# Altium footprint library con-weidmueller-sl35.PCBLIB: 184 footprints (part 10 of 12)
Each footprint in its own frame and in the unit in brackets; x right, y up, seen from the top. Pads: shape width x height; smd on the part's side, far side on the other; paste and mask are expansions set on the pad; w line width, h text height; cw(c..) or ccw(c..) is an arc to the next point about the centre after c.
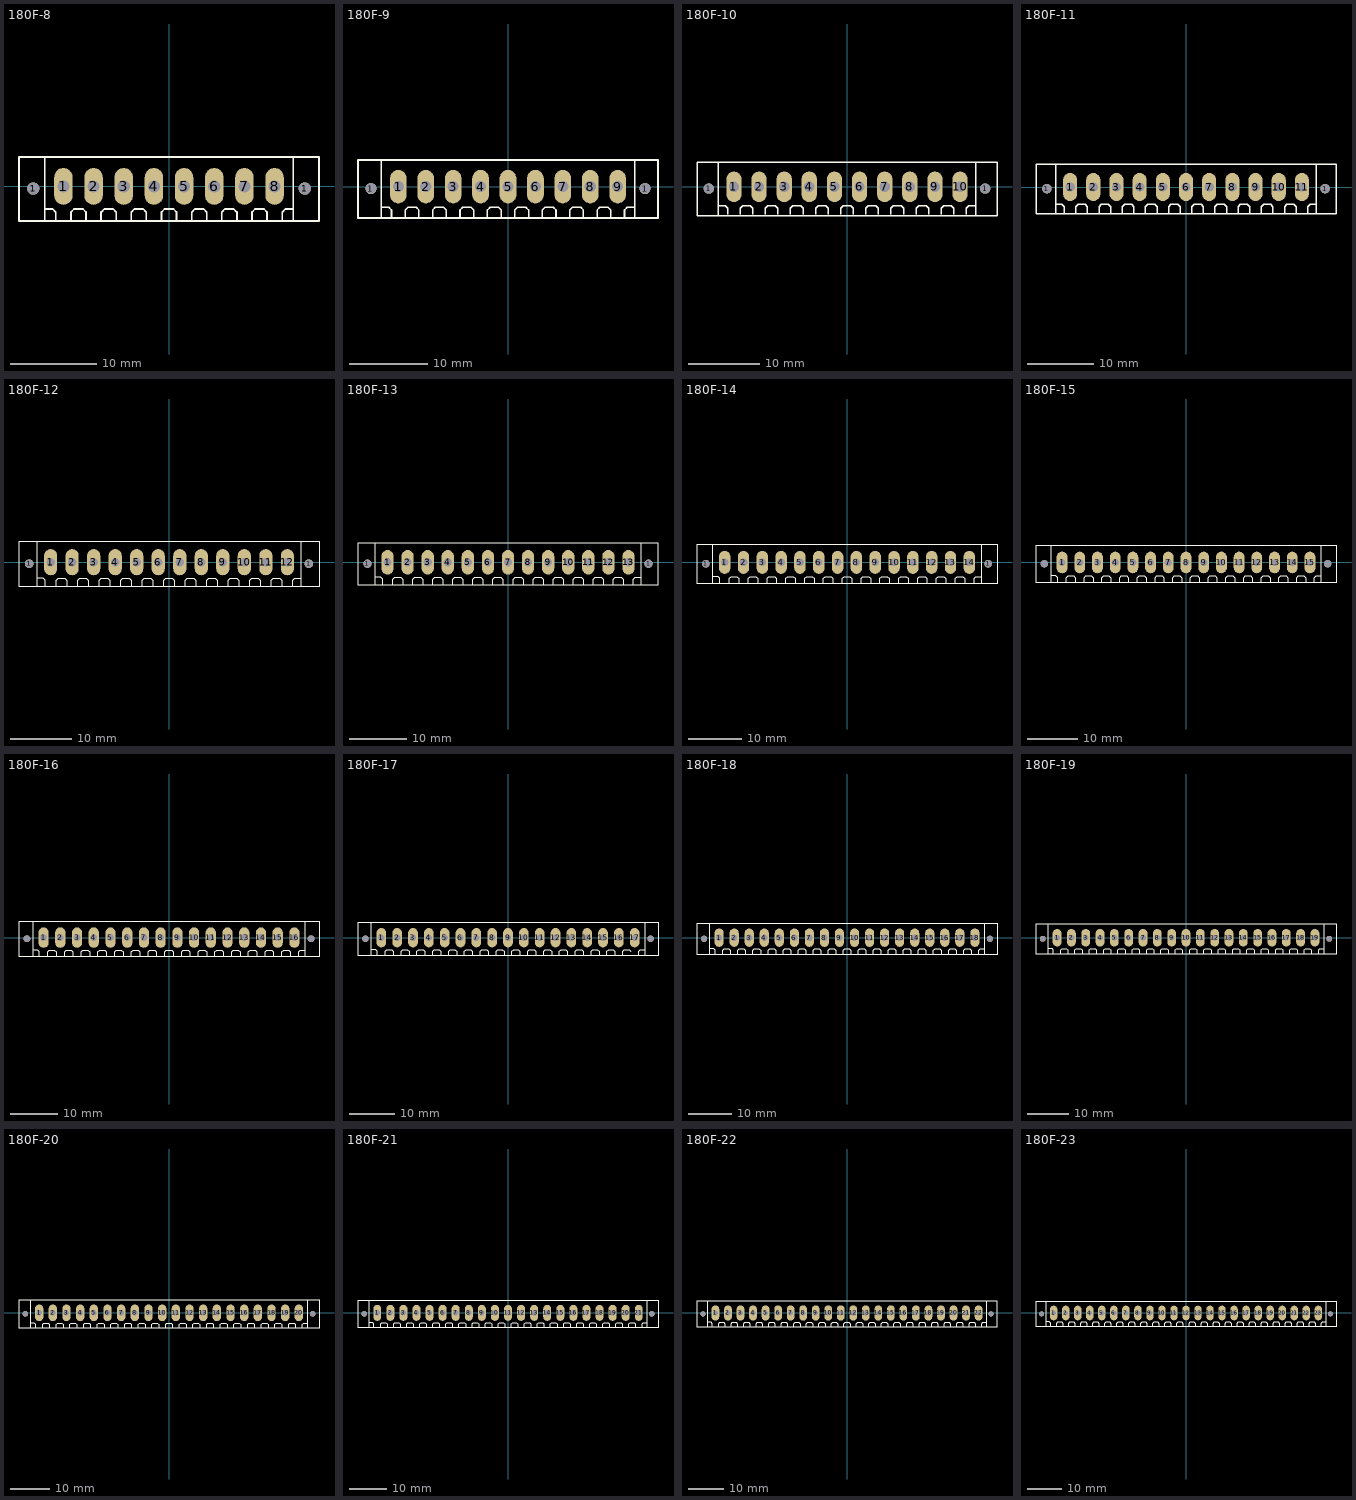
[diagram p9: the footprints below, top view; thin cyan lines are the x and y axes]

## 180F-8 [mil]
pads (10):
  round 56 hole 56: 1(-620.08,-9.84) 1(620.08,-9.84)
  oval 84x168 hole 56: 1(-482.28,0) 2(-344.49,0) 3(-206.69,0) 4(-68.9,0) 5(68.9,0) 6(206.69,0) 7(344.49,0) 8(482.28,0)
Top Overlay:
  lines w8: -564.96,-103.35 -530.51,-103.35 -516.73,-117.13 -516.73,-151.57 ; -447.83,-151.57 -447.83,-117.13 -434.06,-103.35 -392.72,-103.35 -378.94,-117.13 -378.94,-151.57 ; -310.04,-151.57 -310.04,-117.13 -296.26,-103.35 -254.92,-103.35 -241.14,-117.13 -241.14,-151.57 ; -172.24,-151.57 -172.24,-117.13 -158.46,-103.35 -117.13,-103.35 -103.35,-117.13 -103.35,-151.57 ; -34.45,-151.57 -34.45,-117.13 -20.67,-103.35 20.67,-103.35 34.45,-117.13 34.45,-151.57 ; 103.35,-151.57 103.35,-117.13 117.13,-103.35 158.46,-103.35 172.24,-117.13 172.24,-151.57 ; 241.14,-151.57 241.14,-117.13 254.92,-103.35 296.26,-103.35 310.04,-117.13 310.04,-151.57 ; 378.94,-151.57 378.94,-117.13 392.72,-103.35 434.06,-103.35 447.83,-117.13 447.83,-151.57 ; 516.73,-151.57 516.73,-117.13 530.51,-103.35 564.96,-103.35 ; -567.91,-157.48 567.91,-157.48 ; -567.91,-157.48 -685.04,-157.48 -685.04,133.86 -567.91,133.86 ; -567.91,-157.48 -567.91,133.86 ; -567.91,133.86 567.91,133.86 ; 567.91,-157.48 685.04,-157.48 685.04,133.86 567.91,133.86 ; 567.91,-157.48 567.91,133.86

## 180F-9 [mil]
pads (11):
  round 56 hole 56: 1(-688.98,-9.84) 1(688.98,-9.84)
  oval 84x168 hole 56: 1(-551.18,0) 2(-413.39,0) 3(-275.59,0) 4(-137.8,0) 5(0,0) 6(137.8,0) 7(275.59,0) 8(413.39,0) 9(551.18,0)
Top Overlay:
  lines w8: -633.86,-103.35 -599.41,-103.35 -585.63,-117.13 -585.63,-151.57 ; -516.73,-151.57 -516.73,-117.13 -502.95,-103.35 -461.61,-103.35 -447.83,-117.13 -447.83,-151.57 ; -378.94,-151.57 -378.94,-117.13 -365.16,-103.35 -323.82,-103.35 -310.04,-117.13 -310.04,-151.57 ; -241.14,-151.57 -241.14,-117.13 -227.36,-103.35 -186.02,-103.35 -172.24,-117.13 -172.24,-151.57 ; -103.35,-151.57 -103.35,-117.13 -89.57,-103.35 -48.23,-103.35 -34.45,-117.13 -34.45,-151.57 ; 34.45,-151.57 34.45,-117.13 48.23,-103.35 89.57,-103.35 103.35,-117.13 103.35,-151.57 ; 172.24,-151.57 172.24,-117.13 186.02,-103.35 227.36,-103.35 241.14,-117.13 241.14,-151.57 ; 310.04,-151.57 310.04,-117.13 323.82,-103.35 365.16,-103.35 378.94,-117.13 378.94,-151.57 ; 447.83,-151.57 447.83,-117.13 461.61,-103.35 502.95,-103.35 516.73,-117.13 516.73,-151.57 ; 585.63,-151.57 585.63,-117.13 599.41,-103.35 633.86,-103.35 ; -636.81,-157.48 636.81,-157.48 ; -636.81,-157.48 -753.94,-157.48 -753.94,133.86 -636.81,133.86 ; -636.81,-157.48 -636.81,133.86 ; -636.81,133.86 636.81,133.86 ; 636.81,-157.48 753.94,-157.48 753.94,133.86 636.81,133.86 ; 636.81,-157.48 636.81,133.86

## 180F-10 [mil]
pads (12):
  round 56 hole 56: 1(-757.87,-9.84) 1(757.87,-9.84)
  oval 84x168 hole 56: 1(-620.08,0) 2(-482.28,0) 3(-344.49,0) 4(-206.69,0) 5(-68.9,0) 6(68.9,0) 7(206.69,0) 8(344.49,0) 9(482.28,0) 10(620.08,0)
Top Overlay:
  lines w8: -702.76,-103.35 -668.31,-103.35 -654.53,-117.13 -654.53,-151.57 ; -585.63,-151.57 -585.63,-117.13 -571.85,-103.35 -530.51,-103.35 -516.73,-117.13 -516.73,-151.57 ; -447.83,-151.57 -447.83,-117.13 -434.06,-103.35 -392.72,-103.35 -378.94,-117.13 -378.94,-151.57 ; -310.04,-151.57 -310.04,-117.13 -296.26,-103.35 -254.92,-103.35 -241.14,-117.13 -241.14,-151.57 ; -172.24,-151.57 -172.24,-117.13 -158.46,-103.35 -117.13,-103.35 -103.35,-117.13 -103.35,-151.57 ; -34.45,-151.57 -34.45,-117.13 -20.67,-103.35 20.67,-103.35 34.45,-117.13 34.45,-151.57 ; 103.35,-151.57 103.35,-117.13 117.13,-103.35 158.46,-103.35 172.24,-117.13 172.24,-151.57 ; 241.14,-151.57 241.14,-117.13 254.92,-103.35 296.26,-103.35 310.04,-117.13 310.04,-151.57 ; 378.94,-151.57 378.94,-117.13 392.72,-103.35 434.06,-103.35 447.83,-117.13 447.83,-151.57 ; 516.73,-151.57 516.73,-117.13 530.51,-103.35 571.85,-103.35 585.63,-117.13 585.63,-151.57 ; 654.53,-151.57 654.53,-117.13 668.31,-103.35 702.76,-103.35 ; -705.71,-157.48 705.71,-157.48 ; -705.71,-157.48 -822.83,-157.48 -822.83,133.86 -705.71,133.86 ; -705.71,-157.48 -705.71,133.86 ; -705.71,133.86 705.71,133.86 ; 705.71,-157.48 822.83,-157.48 822.83,133.86 705.71,133.86 ; 705.71,-157.48 705.71,133.86

## 180F-11 [mil]
pads (13):
  round 56 hole 56: 1(-826.77,-9.84) 1(826.77,-9.84)
  oval 84x168 hole 56: 1(-688.98,0) 2(-551.18,0) 3(-413.39,0) 4(-275.59,0) 5(-137.8,0) 6(0,0) 7(137.8,0) 8(275.59,0) 9(413.39,0) 10(551.18,0) 11(688.98,0)
Top Overlay:
  lines w8: -771.65,-103.35 -737.2,-103.35 -723.43,-117.13 -723.43,-151.57 ; -654.53,-151.57 -654.53,-117.13 -640.75,-103.35 -599.41,-103.35 -585.63,-117.13 -585.63,-151.57 ; -516.73,-151.57 -516.73,-117.13 -502.95,-103.35 -461.61,-103.35 -447.83,-117.13 -447.83,-151.57 ; -378.94,-151.57 -378.94,-117.13 -365.16,-103.35 -323.82,-103.35 -310.04,-117.13 -310.04,-151.57 ; -241.14,-151.57 -241.14,-117.13 -227.36,-103.35 -186.02,-103.35 -172.24,-117.13 -172.24,-151.57 ; -103.35,-151.57 -103.35,-117.13 -89.57,-103.35 -48.23,-103.35 -34.45,-117.13 -34.45,-151.57 ; 34.45,-151.57 34.45,-117.13 48.23,-103.35 89.57,-103.35 103.35,-117.13 103.35,-151.57 ; 172.24,-151.57 172.24,-117.13 186.02,-103.35 227.36,-103.35 241.14,-117.13 241.14,-151.57 ; 310.04,-151.57 310.04,-117.13 323.82,-103.35 365.16,-103.35 378.94,-117.13 378.94,-151.57 ; 447.83,-151.57 447.83,-117.13 461.61,-103.35 502.95,-103.35 516.73,-117.13 516.73,-151.57 ; 585.63,-151.57 585.63,-117.13 599.41,-103.35 640.75,-103.35 654.53,-117.13 654.53,-151.57 ; 723.43,-151.57 723.43,-117.13 737.2,-103.35 771.65,-103.35 ; -774.61,-157.48 774.61,-157.48 ; -774.61,-157.48 -891.73,-157.48 -891.73,133.86 -774.61,133.86 ; -774.61,-157.48 -774.61,133.86 ; -774.61,133.86 774.61,133.86 ; 774.61,-157.48 891.73,-157.48 891.73,133.86 774.61,133.86 ; 774.61,-157.48 774.61,133.86

## 180F-12 [mil]
pads (14):
  round 56 hole 56: 1(-895.67,-9.84) 1(895.67,-9.84)
  oval 84x168 hole 56: 1(-757.87,0) 2(-620.08,0) 3(-482.28,0) 4(-344.49,0) 5(-206.69,0) 6(-68.9,0) 7(68.9,0) 8(206.69,0) 9(344.49,0) 10(482.28,0) 11(620.08,0) 12(757.87,0)
Top Overlay:
  lines w8: -840.55,-103.35 -806.1,-103.35 -792.32,-117.13 -792.32,-151.57 ; -723.43,-151.57 -723.43,-117.13 -709.65,-103.35 -668.31,-103.35 -654.53,-117.13 -654.53,-151.57 ; -585.63,-151.57 -585.63,-117.13 -571.85,-103.35 -530.51,-103.35 -516.73,-117.13 -516.73,-151.57 ; -447.83,-151.57 -447.83,-117.13 -434.06,-103.35 -392.72,-103.35 -378.94,-117.13 -378.94,-151.57 ; -310.04,-151.57 -310.04,-117.13 -296.26,-103.35 -254.92,-103.35 -241.14,-117.13 -241.14,-151.57 ; -172.24,-151.57 -172.24,-117.13 -158.46,-103.35 -117.13,-103.35 -103.35,-117.13 -103.35,-151.57 ; -34.45,-151.57 -34.45,-117.13 -20.67,-103.35 20.67,-103.35 34.45,-117.13 34.45,-151.57 ; 103.35,-151.57 103.35,-117.13 117.13,-103.35 158.46,-103.35 172.24,-117.13 172.24,-151.57 ; 241.14,-151.57 241.14,-117.13 254.92,-103.35 296.26,-103.35 310.04,-117.13 310.04,-151.57 ; 378.94,-151.57 378.94,-117.13 392.72,-103.35 434.06,-103.35 447.83,-117.13 447.83,-151.57 ; 516.73,-151.57 516.73,-117.13 530.51,-103.35 571.85,-103.35 585.63,-117.13 585.63,-151.57 ; 654.53,-151.57 654.53,-117.13 668.31,-103.35 709.65,-103.35 723.43,-117.13 723.43,-151.57 ; 792.32,-151.57 792.32,-117.13 806.1,-103.35 840.55,-103.35 ; -843.5,-157.48 843.5,-157.48 ; -843.5,-157.48 -960.63,-157.48 -960.63,133.86 -843.5,133.86 ; -843.5,-157.48 -843.5,133.86 ; -843.5,133.86 843.5,133.86 ; 843.5,-157.48 960.63,-157.48 960.63,133.86 843.5,133.86 ; 843.5,-157.48 843.5,133.86

## 180F-13 [mil]
pads (15):
  round 56 hole 56: 1(-964.57,-9.84) 1(964.57,-9.84)
  oval 84x168 hole 56: 1(-826.77,0) 2(-688.98,0) 3(-551.18,0) 4(-413.39,0) 5(-275.59,0) 6(-137.8,0) 7(0,0) 8(137.8,0) 9(275.59,0) 10(413.39,0) 11(551.18,0) 12(688.98,0) 13(826.77,0)
Top Overlay:
  lines w8: -909.45,-103.35 -875,-103.35 -861.22,-117.13 -861.22,-151.57 ; -792.32,-151.57 -792.32,-117.13 -778.54,-103.35 -737.2,-103.35 -723.43,-117.13 -723.43,-151.57 ; -654.53,-151.57 -654.53,-117.13 -640.75,-103.35 -599.41,-103.35 -585.63,-117.13 -585.63,-151.57 ; -516.73,-151.57 -516.73,-117.13 -502.95,-103.35 -461.61,-103.35 -447.83,-117.13 -447.83,-151.57 ; -378.94,-151.57 -378.94,-117.13 -365.16,-103.35 -323.82,-103.35 -310.04,-117.13 -310.04,-151.57 ; -241.14,-151.57 -241.14,-117.13 -227.36,-103.35 -186.02,-103.35 -172.24,-117.13 -172.24,-151.57 ; -103.35,-151.57 -103.35,-117.13 -89.57,-103.35 -48.23,-103.35 -34.45,-117.13 -34.45,-151.57 ; 34.45,-151.57 34.45,-117.13 48.23,-103.35 89.57,-103.35 103.35,-117.13 103.35,-151.57 ; 172.24,-151.57 172.24,-117.13 186.02,-103.35 227.36,-103.35 241.14,-117.13 241.14,-151.57 ; 310.04,-151.57 310.04,-117.13 323.82,-103.35 365.16,-103.35 378.94,-117.13 378.94,-151.57 ; 447.83,-151.57 447.83,-117.13 461.61,-103.35 502.95,-103.35 516.73,-117.13 516.73,-151.57 ; 585.63,-151.57 585.63,-117.13 599.41,-103.35 640.75,-103.35 654.53,-117.13 654.53,-151.57 ; 723.43,-151.57 723.43,-117.13 737.2,-103.35 778.54,-103.35 792.32,-117.13 792.32,-151.57 ; 861.22,-151.57 861.22,-117.13 875,-103.35 909.45,-103.35 ; -912.4,-157.48 912.4,-157.48 ; -912.4,-157.48 -1029.53,-157.48 -1029.53,133.86 -912.4,133.86 ; -912.4,-157.48 -912.4,133.86 ; -912.4,133.86 912.4,133.86 ; 912.4,-157.48 1029.53,-157.48 1029.53,133.86 912.4,133.86 ; 912.4,-157.48 912.4,133.86

## 180F-14 [mil]
pads (16):
  round 56 hole 56: 1(-1033.46,-9.84) 1(1033.46,-9.84)
  oval 84x168 hole 56: 1(-895.67,0) 2(-757.87,0) 3(-620.08,0) 4(-482.28,0) 5(-344.49,0) 6(-206.69,0) 7(-68.9,0) 8(68.9,0) 9(206.69,0) 10(344.49,0) 11(482.28,0) 12(620.08,0) 13(757.87,0) 14(895.67,0)
Top Overlay:
  lines w8: -978.35,-103.35 -943.9,-103.35 -930.12,-117.13 -930.12,-151.57 ; -861.22,-151.57 -861.22,-117.13 -847.44,-103.35 -806.1,-103.35 -792.32,-117.13 -792.32,-151.57 ; -723.43,-151.57 -723.43,-117.13 -709.65,-103.35 -668.31,-103.35 -654.53,-117.13 -654.53,-151.57 ; -585.63,-151.57 -585.63,-117.13 -571.85,-103.35 -530.51,-103.35 -516.73,-117.13 -516.73,-151.57 ; -447.83,-151.57 -447.83,-117.13 -434.06,-103.35 -392.72,-103.35 -378.94,-117.13 -378.94,-151.57 ; -310.04,-151.57 -310.04,-117.13 -296.26,-103.35 -254.92,-103.35 -241.14,-117.13 -241.14,-151.57 ; -172.24,-151.57 -172.24,-117.13 -158.46,-103.35 -117.13,-103.35 -103.35,-117.13 -103.35,-151.57 ; -34.45,-151.57 -34.45,-117.13 -20.67,-103.35 20.67,-103.35 34.45,-117.13 34.45,-151.57 ; 103.35,-151.57 103.35,-117.13 117.13,-103.35 158.46,-103.35 172.24,-117.13 172.24,-151.57 ; 241.14,-151.57 241.14,-117.13 254.92,-103.35 296.26,-103.35 310.04,-117.13 310.04,-151.57 ; 378.94,-151.57 378.94,-117.13 392.72,-103.35 434.06,-103.35 447.83,-117.13 447.83,-151.57 ; 516.73,-151.57 516.73,-117.13 530.51,-103.35 571.85,-103.35 585.63,-117.13 585.63,-151.57 ; 654.53,-151.57 654.53,-117.13 668.31,-103.35 709.65,-103.35 723.43,-117.13 723.43,-151.57 ; 792.32,-151.57 792.32,-117.13 806.1,-103.35 847.44,-103.35 861.22,-117.13 861.22,-151.57 ; 930.12,-151.57 930.12,-117.13 943.9,-103.35 978.35,-103.35 ; -981.3,-157.48 981.3,-157.48 ; -981.3,-157.48 -1098.43,-157.48 -1098.43,133.86 -981.3,133.86 ; -981.3,-157.48 -981.3,133.86 ; -981.3,133.86 981.3,133.86 ; 981.3,-157.48 1098.43,-157.48 1098.43,133.86 981.3,133.86 ; 981.3,-157.48 981.3,133.86

## 180F-15 [mil]
pads (17):
  round 56 hole 56: 1(-1102.36,-9.84) 1(1102.36,-9.84)
  oval 84x168 hole 56: 1(-964.57,0) 2(-826.77,0) 3(-688.98,0) 4(-551.18,0) 5(-413.39,0) 6(-275.59,0) 7(-137.8,0) 8(0,0) 9(137.8,0) 10(275.59,0) 11(413.39,0) 12(551.18,0) 13(688.98,0) 14(826.77,0) 15(964.57,0)
Top Overlay:
  lines w8: -1047.24,-103.35 -1012.8,-103.35 -999.02,-117.13 -999.02,-151.57 ; -930.12,-151.57 -930.12,-117.13 -916.34,-103.35 -875,-103.35 -861.22,-117.13 -861.22,-151.57 ; -792.32,-151.57 -792.32,-117.13 -778.54,-103.35 -737.2,-103.35 -723.43,-117.13 -723.43,-151.57 ; -654.53,-151.57 -654.53,-117.13 -640.75,-103.35 -599.41,-103.35 -585.63,-117.13 -585.63,-151.57 ; -516.73,-151.57 -516.73,-117.13 -502.95,-103.35 -461.61,-103.35 -447.83,-117.13 -447.83,-151.57 ; -378.94,-151.57 -378.94,-117.13 -365.16,-103.35 -323.82,-103.35 -310.04,-117.13 -310.04,-151.57 ; -241.14,-151.57 -241.14,-117.13 -227.36,-103.35 -186.02,-103.35 -172.24,-117.13 -172.24,-151.57 ; -103.35,-151.57 -103.35,-117.13 -89.57,-103.35 -48.23,-103.35 -34.45,-117.13 -34.45,-151.57 ; 34.45,-151.57 34.45,-117.13 48.23,-103.35 89.57,-103.35 103.35,-117.13 103.35,-151.57 ; 172.24,-151.57 172.24,-117.13 186.02,-103.35 227.36,-103.35 241.14,-117.13 241.14,-151.57 ; 310.04,-151.57 310.04,-117.13 323.82,-103.35 365.16,-103.35 378.94,-117.13 378.94,-151.57 ; 447.83,-151.57 447.83,-117.13 461.61,-103.35 502.95,-103.35 516.73,-117.13 516.73,-151.57 ; 585.63,-151.57 585.63,-117.13 599.41,-103.35 640.75,-103.35 654.53,-117.13 654.53,-151.57 ; 723.43,-151.57 723.43,-117.13 737.2,-103.35 778.54,-103.35 792.32,-117.13 792.32,-151.57 ; 861.22,-151.57 861.22,-117.13 875,-103.35 916.34,-103.35 930.12,-117.13 930.12,-151.57 ; 999.02,-151.57 999.02,-117.13 1012.8,-103.35 1047.24,-103.35 ; -1050.2,-157.48 1050.2,-157.48 ; -1050.2,-157.48 -1167.32,-157.48 -1167.32,133.86 -1050.2,133.86 ; -1050.2,-157.48 -1050.2,133.86 ; -1050.2,133.86 1050.2,133.86 ; 1050.2,-157.48 1167.32,-157.48 1167.32,133.86 1050.2,133.86 ; 1050.2,-157.48 1050.2,133.86

## 180F-16 [mil]
pads (18):
  round 56 hole 56: 1(-1171.26,-9.84) 1(1171.26,-9.84)
  oval 84x168 hole 56: 1(-1033.46,0) 2(-895.67,0) 3(-757.87,0) 4(-620.08,0) 5(-482.28,0) 6(-344.49,0) 7(-206.69,0) 8(-68.9,0) 9(68.9,0) 10(206.69,0) 11(344.49,0) 12(482.28,0) 13(620.08,0) 14(757.87,0) 15(895.67,0) 16(1033.46,0)
Top Overlay:
  lines w8: -1116.14,-103.35 -1081.69,-103.35 -1067.91,-117.13 -1067.91,-151.57 ; -999.02,-151.57 -999.02,-117.13 -985.24,-103.35 -943.9,-103.35 -930.12,-117.13 -930.12,-151.57 ; -861.22,-151.57 -861.22,-117.13 -847.44,-103.35 -806.1,-103.35 -792.32,-117.13 -792.32,-151.57 ; -723.43,-151.57 -723.43,-117.13 -709.65,-103.35 -668.31,-103.35 -654.53,-117.13 -654.53,-151.57 ; -585.63,-151.57 -585.63,-117.13 -571.85,-103.35 -530.51,-103.35 -516.73,-117.13 -516.73,-151.57 ; -447.83,-151.57 -447.83,-117.13 -434.06,-103.35 -392.72,-103.35 -378.94,-117.13 -378.94,-151.57 ; -310.04,-151.57 -310.04,-117.13 -296.26,-103.35 -254.92,-103.35 -241.14,-117.13 -241.14,-151.57 ; -172.24,-151.57 -172.24,-117.13 -158.46,-103.35 -117.13,-103.35 -103.35,-117.13 -103.35,-151.57 ; -34.45,-151.57 -34.45,-117.13 -20.67,-103.35 20.67,-103.35 34.45,-117.13 34.45,-151.57 ; 103.35,-151.57 103.35,-117.13 117.13,-103.35 158.46,-103.35 172.24,-117.13 172.24,-151.57 ; 241.14,-151.57 241.14,-117.13 254.92,-103.35 296.26,-103.35 310.04,-117.13 310.04,-151.57 ; 378.94,-151.57 378.94,-117.13 392.72,-103.35 434.06,-103.35 447.83,-117.13 447.83,-151.57 ; 516.73,-151.57 516.73,-117.13 530.51,-103.35 571.85,-103.35 585.63,-117.13 585.63,-151.57 ; 654.53,-151.57 654.53,-117.13 668.31,-103.35 709.65,-103.35 723.43,-117.13 723.43,-151.57 ; 792.32,-151.57 792.32,-117.13 806.1,-103.35 847.44,-103.35 861.22,-117.13 861.22,-151.57 ; 930.12,-151.57 930.12,-117.13 943.9,-103.35 985.24,-103.35 999.02,-117.13 999.02,-151.57 ; 1067.91,-151.57 1067.91,-117.13 1081.69,-103.35 1116.14,-103.35 ; -1119.09,-157.48 1119.09,-157.48 ; -1119.09,-157.48 -1236.22,-157.48 -1236.22,133.86 -1119.09,133.86 ; -1119.09,-157.48 -1119.09,133.86 ; -1119.09,133.86 1119.09,133.86 ; 1119.09,-157.48 1236.22,-157.48 1236.22,133.86 1119.09,133.86 ; 1119.09,-157.48 1119.09,133.86

## 180F-17 [mil]
pads (19):
  round 56 hole 56: 1(-1240.16,-9.84) 1(1240.16,-9.84)
  oval 84x168 hole 56: 1(-1102.36,0) 2(-964.57,0) 3(-826.77,0) 4(-688.98,0) 5(-551.18,0) 6(-413.39,0) 7(-275.59,0) 8(-137.8,0) 9(0,0) 10(137.8,0) 11(275.59,0) 12(413.39,0) 13(551.18,0) 14(688.98,0) 15(826.77,0) 16(964.57,0) 17(1102.36,0)
Top Overlay:
  lines w8: -1185.04,-103.35 -1150.59,-103.35 -1136.81,-117.13 -1136.81,-151.57 ; -1067.91,-151.57 -1067.91,-117.13 -1054.13,-103.35 -1012.8,-103.35 -999.02,-117.13 -999.02,-151.57 ; -930.12,-151.57 -930.12,-117.13 -916.34,-103.35 -875,-103.35 -861.22,-117.13 -861.22,-151.57 ; -792.32,-151.57 -792.32,-117.13 -778.54,-103.35 -737.2,-103.35 -723.43,-117.13 -723.43,-151.57 ; -654.53,-151.57 -654.53,-117.13 -640.75,-103.35 -599.41,-103.35 -585.63,-117.13 -585.63,-151.57 ; -516.73,-151.57 -516.73,-117.13 -502.95,-103.35 -461.61,-103.35 -447.83,-117.13 -447.83,-151.57 ; -378.94,-151.57 -378.94,-117.13 -365.16,-103.35 -323.82,-103.35 -310.04,-117.13 -310.04,-151.57 ; -241.14,-151.57 -241.14,-117.13 -227.36,-103.35 -186.02,-103.35 -172.24,-117.13 -172.24,-151.57 ; -103.35,-151.57 -103.35,-117.13 -89.57,-103.35 -48.23,-103.35 -34.45,-117.13 -34.45,-151.57 ; 34.45,-151.57 34.45,-117.13 48.23,-103.35 89.57,-103.35 103.35,-117.13 103.35,-151.57 ; 172.24,-151.57 172.24,-117.13 186.02,-103.35 227.36,-103.35 241.14,-117.13 241.14,-151.57 ; 310.04,-151.57 310.04,-117.13 323.82,-103.35 365.16,-103.35 378.94,-117.13 378.94,-151.57 ; 447.83,-151.57 447.83,-117.13 461.61,-103.35 502.95,-103.35 516.73,-117.13 516.73,-151.57 ; 585.63,-151.57 585.63,-117.13 599.41,-103.35 640.75,-103.35 654.53,-117.13 654.53,-151.57 ; 723.43,-151.57 723.43,-117.13 737.2,-103.35 778.54,-103.35 792.32,-117.13 792.32,-151.57 ; 861.22,-151.57 861.22,-117.13 875,-103.35 916.34,-103.35 930.12,-117.13 930.12,-151.57 ; 999.02,-151.57 999.02,-117.13 1012.8,-103.35 1054.13,-103.35 1067.91,-117.13 ; 1136.81,-151.57 1136.81,-117.13 1150.59,-103.35 1185.04,-103.35 ; -1187.99,-157.48 1187.99,-157.48 ; -1187.99,-157.48 -1305.12,-157.48 -1305.12,133.86 -1187.99,133.86 ; -1187.99,-157.48 -1187.99,133.86 ; -1187.99,133.86 1187.99,133.86 ; 1187.99,-157.48 1305.12,-157.48 1305.12,133.86 1187.99,133.86 ; 1187.99,-157.48 1187.99,133.86

## 180F-18 [mil]
pads (20):
  round 56 hole 56: 1(-1309.06,-9.84) 1(1309.06,-9.84)
  oval 84x168 hole 56: 1(-1171.26,0) 2(-1033.46,0) 3(-895.67,0) 4(-757.87,0) 5(-620.08,0) 6(-482.28,0) 7(-344.49,0) 8(-206.69,0) 9(-68.9,0) 10(68.9,0) 11(206.69,0) 12(344.49,0) 13(482.28,0) 14(620.08,0) 15(757.87,0) 16(895.67,0) 17(1033.46,0) 18(1171.26,0)
Top Overlay:
  lines w8: -1253.94,-103.35 -1219.49,-103.35 -1205.71,-117.13 -1205.71,-151.57 ; -1136.81,-151.57 -1136.81,-117.13 -1123.03,-103.35 -1081.69,-103.35 -1067.91,-117.13 -1067.91,-151.57 ; -999.02,-151.57 -999.02,-117.13 -985.24,-103.35 -943.9,-103.35 -930.12,-117.13 -930.12,-151.57 ; -861.22,-151.57 -861.22,-117.13 -847.44,-103.35 -806.1,-103.35 -792.32,-117.13 -792.32,-151.57 ; -723.43,-151.57 -723.43,-117.13 -709.65,-103.35 -668.31,-103.35 -654.53,-117.13 -654.53,-151.57 ; -585.63,-151.57 -585.63,-117.13 -571.85,-103.35 -530.51,-103.35 -516.73,-117.13 -516.73,-151.57 ; -447.83,-151.57 -447.83,-117.13 -434.06,-103.35 -392.72,-103.35 -378.94,-117.13 -378.94,-151.57 ; -310.04,-151.57 -310.04,-117.13 -296.26,-103.35 -254.92,-103.35 -241.14,-117.13 -241.14,-151.57 ; -172.24,-151.57 -172.24,-117.13 -158.46,-103.35 -117.13,-103.35 -103.35,-117.13 -103.35,-151.57 ; -34.45,-151.57 -34.45,-117.13 -20.67,-103.35 20.67,-103.35 34.45,-117.13 34.45,-151.57 ; 103.35,-151.57 103.35,-117.13 117.13,-103.35 158.46,-103.35 172.24,-117.13 172.24,-151.57 ; 241.14,-151.57 241.14,-117.13 254.92,-103.35 296.26,-103.35 310.04,-117.13 310.04,-151.57 ; 378.94,-151.57 378.94,-117.13 392.72,-103.35 434.06,-103.35 447.83,-117.13 447.83,-151.57 ; 516.73,-151.57 516.73,-117.13 530.51,-103.35 571.85,-103.35 585.63,-117.13 585.63,-151.57 ; 654.53,-151.57 654.53,-117.13 668.31,-103.35 709.65,-103.35 723.43,-117.13 723.43,-151.57 ; 792.32,-151.57 792.32,-117.13 806.1,-103.35 847.44,-103.35 861.22,-117.13 861.22,-151.57 ; 930.12,-151.57 930.12,-117.13 943.9,-103.35 985.24,-103.35 999.02,-117.13 999.02,-151.57 ; 1067.91,-151.57 1067.91,-117.13 1081.69,-103.35 1123.03,-103.35 1136.81,-117.13 1136.81,-151.57 ; 1205.71,-151.57 1205.71,-117.13 1219.49,-103.35 1253.94,-103.35 ; -1256.89,-157.48 1256.89,-157.48 ; -1256.89,-157.48 -1374.02,-157.48 -1374.02,133.86 -1256.89,133.86 ; -1256.89,-157.48 -1256.89,133.86 ; -1256.89,133.86 1256.89,133.86 ; 1256.89,-157.48 1374.02,-157.48 1374.02,133.86 1256.89,133.86 ; 1256.89,-157.48 1256.89,133.86

## 180F-19 [mil]
pads (21):
  round 56 hole 56: 1(-1377.95,-9.84) 1(1377.95,-9.84)
  oval 84x168 hole 56: 1(-1240.16,0) 2(-1102.36,0) 3(-964.57,0) 4(-826.77,0) 5(-688.98,0) 6(-551.18,0) 7(-413.39,0) 8(-275.59,0) 9(-137.8,0) 10(0,0) 11(137.8,0) 12(275.59,0) 13(413.39,0) 14(551.18,0) 15(688.98,0) 16(826.77,0) 17(964.57,0) 18(1102.36,0) 19(1240.16,0)
Top Overlay:
  lines w8: -1322.83,-103.35 -1288.39,-103.35 -1274.61,-117.13 -1274.61,-151.57 ; -1205.71,-151.57 -1205.71,-117.13 -1191.93,-103.35 -1150.59,-103.35 -1136.81,-117.13 -1136.81,-151.57 ; -1067.91,-151.57 -1067.91,-117.13 -1054.13,-103.35 -1012.8,-103.35 -999.02,-117.13 -999.02,-151.57 ; -930.12,-151.57 -930.12,-117.13 -916.34,-103.35 -875,-103.35 -861.22,-117.13 -861.22,-151.57 ; -792.32,-151.57 -792.32,-117.13 -778.54,-103.35 -737.2,-103.35 -723.43,-117.13 -723.43,-151.57 ; -654.53,-151.57 -654.53,-117.13 -640.75,-103.35 -599.41,-103.35 -585.63,-117.13 -585.63,-151.57 ; -516.73,-151.57 -516.73,-117.13 -502.95,-103.35 -461.61,-103.35 -447.83,-117.13 -447.83,-151.57 ; -378.94,-151.57 -378.94,-117.13 -365.16,-103.35 -323.82,-103.35 -310.04,-117.13 -310.04,-151.57 ; -241.14,-151.57 -241.14,-117.13 -227.36,-103.35 -186.02,-103.35 -172.24,-117.13 -172.24,-151.57 ; -103.35,-151.57 -103.35,-117.13 -89.57,-103.35 -48.23,-103.35 -34.45,-117.13 -34.45,-151.57 ; 34.45,-151.57 34.45,-117.13 48.23,-103.35 89.57,-103.35 103.35,-117.13 103.35,-151.57 ; 172.24,-151.57 172.24,-117.13 186.02,-103.35 227.36,-103.35 241.14,-117.13 241.14,-151.57 ; 310.04,-151.57 310.04,-117.13 323.82,-103.35 365.16,-103.35 378.94,-117.13 378.94,-151.57 ; 447.83,-151.57 447.83,-117.13 461.61,-103.35 502.95,-103.35 516.73,-117.13 516.73,-151.57 ; 585.63,-151.57 585.63,-117.13 599.41,-103.35 640.75,-103.35 654.53,-117.13 654.53,-151.57 ; 723.43,-151.57 723.43,-117.13 737.2,-103.35 778.54,-103.35 792.32,-117.13 792.32,-151.57 ; 861.22,-151.57 861.22,-117.13 875,-103.35 916.34,-103.35 930.12,-117.13 930.12,-151.57 ; 999.02,-151.57 999.02,-117.13 1012.8,-103.35 1054.13,-103.35 1067.91,-117.13 1067.91,-151.57 ; 1136.81,-151.57 1136.81,-117.13 1150.59,-103.35 1191.93,-103.35 1205.71,-117.13 1205.71,-151.57 ; 1274.61,-151.57 1274.61,-117.13 1288.39,-103.35 1322.83,-103.35 ; -1325.79,-157.48 1325.79,-157.48 ; -1325.79,-157.48 -1442.91,-157.48 -1442.91,133.86 -1325.79,133.86 ; -1325.79,-157.48 -1325.79,133.86 ; -1325.79,133.86 1325.79,133.86 ; 1325.79,-157.48 1442.91,-157.48 1442.91,133.86 1325.79,133.86 ; 1325.79,-157.48 1325.79,133.86

## 180F-20 [mil]
pads (22):
  round 56 hole 56: 1(-1446.85,-9.84) 1(1446.85,-9.84)
  oval 84x168 hole 56: 1(-1309.06,0) 2(-1171.26,0) 3(-1033.46,0) 4(-895.67,0) 5(-757.87,0) 6(-620.08,0) 7(-482.28,0) 8(-344.49,0) 9(-206.69,0) 10(-68.9,0) 11(68.9,0) 12(206.69,0) 13(344.49,0) 14(482.28,0) 15(620.08,0) 16(757.87,0) 17(895.67,0) 18(1033.46,0) 19(1171.26,0) 20(1309.06,0)
Top Overlay:
  lines w8: -1391.73,-103.35 -1357.28,-103.35 -1343.5,-117.13 -1343.5,-151.57 ; -1274.61,-151.57 -1274.61,-117.13 -1260.83,-103.35 -1219.49,-103.35 -1205.71,-117.13 -1205.71,-151.57 ; -1136.81,-151.57 -1136.81,-117.13 -1123.03,-103.35 -1081.69,-103.35 -1067.91,-117.13 -1067.91,-151.57 ; -999.02,-151.57 -999.02,-117.13 -985.24,-103.35 -943.9,-103.35 -930.12,-117.13 -930.12,-151.57 ; -861.22,-151.57 -861.22,-117.13 -847.44,-103.35 -806.1,-103.35 -792.32,-117.13 -792.32,-151.57 ; -723.43,-151.57 -723.43,-117.13 -709.65,-103.35 -668.31,-103.35 -654.53,-117.13 -654.53,-151.57 ; -585.63,-151.57 -585.63,-117.13 -571.85,-103.35 -530.51,-103.35 -516.73,-117.13 -516.73,-151.57 ; -447.83,-151.57 -447.83,-117.13 -434.06,-103.35 -392.72,-103.35 -378.94,-117.13 -378.94,-151.57 ; -310.04,-151.57 -310.04,-117.13 -296.26,-103.35 -254.92,-103.35 -241.14,-117.13 -241.14,-151.57 ; -172.24,-151.57 -172.24,-117.13 -158.46,-103.35 -117.13,-103.35 -103.35,-117.13 -103.35,-151.57 ; -34.45,-151.57 -34.45,-117.13 -20.67,-103.35 20.67,-103.35 34.45,-117.13 34.45,-151.57 ; 103.35,-151.57 103.35,-117.13 117.13,-103.35 158.46,-103.35 172.24,-117.13 172.24,-151.57 ; 241.14,-151.57 241.14,-117.13 254.92,-103.35 296.26,-103.35 310.04,-117.13 310.04,-151.57 ; 378.94,-151.57 378.94,-117.13 392.72,-103.35 434.06,-103.35 447.83,-117.13 447.83,-151.57 ; 516.73,-151.57 516.73,-117.13 530.51,-103.35 571.85,-103.35 585.63,-117.13 585.63,-151.57 ; 654.53,-151.57 654.53,-117.13 668.31,-103.35 709.65,-103.35 723.43,-117.13 723.43,-151.57 ; 792.32,-151.57 792.32,-117.13 806.1,-103.35 847.44,-103.35 861.22,-117.13 861.22,-151.57 ; 930.12,-151.57 930.12,-117.13 943.9,-103.35 985.24,-103.35 999.02,-117.13 999.02,-151.57 ; 1067.91,-151.57 1067.91,-117.13 1081.69,-103.35 1123.03,-103.35 1136.81,-117.13 1136.81,-151.57 ; 1205.71,-151.57 1205.71,-117.13 1219.49,-103.35 1260.83,-103.35 1274.61,-117.13 1274.61,-151.57 ; 1343.5,-151.57 1343.5,-117.13 1357.28,-103.35 1391.73,-103.35 ; -1394.69,-157.48 1394.69,-157.48 ; -1394.69,-157.48 -1511.81,-157.48 -1511.81,133.86 -1394.69,133.86 ; -1394.69,-157.48 -1394.69,133.86 ; -1394.69,133.86 1394.69,133.86 ; 1394.69,-157.48 1511.81,-157.48 1511.81,133.86 1394.69,133.86 ; 1394.69,-157.48 1394.69,133.86

## 180F-21 [mil]
pads (23):
  round 56 hole 56: 1(-1515.75,-9.84) 1(1515.75,-9.84)
  oval 84x168 hole 56: 1(-1377.95,0) 2(-1240.16,0) 3(-1102.36,0) 4(-964.57,0) 5(-826.77,0) 6(-688.98,0) 7(-551.18,0) 8(-413.39,0) 9(-275.59,0) 10(-137.8,0) 11(0,0) 12(137.8,0) 13(275.59,0) 14(413.39,0) 15(551.18,0) 16(688.98,0) 17(826.77,0) 18(964.57,0) 19(1102.36,0) 20(1240.16,0) 21(1377.95,0)
Top Overlay:
  lines w8: -1460.63,-103.35 -1426.18,-103.35 -1412.4,-117.13 -1412.4,-151.57 ; -1343.5,-151.57 -1343.5,-117.13 -1329.72,-103.35 -1288.39,-103.35 -1274.61,-117.13 -1274.61,-151.57 ; -1205.71,-151.57 -1205.71,-117.13 -1191.93,-103.35 -1150.59,-103.35 -1136.81,-117.13 -1136.81,-151.57 ; -1067.91,-151.57 -1067.91,-117.13 -1054.13,-103.35 -1012.8,-103.35 -999.02,-117.13 -999.02,-151.57 ; -930.12,-151.57 -930.12,-117.13 -916.34,-103.35 -875,-103.35 -861.22,-117.13 -861.22,-151.57 ; -792.32,-151.57 -792.32,-117.13 -778.54,-103.35 -737.2,-103.35 -723.43,-117.13 -723.43,-151.57 ; -654.53,-151.57 -654.53,-117.13 -640.75,-103.35 -599.41,-103.35 -585.63,-117.13 -585.63,-151.57 ; -516.73,-151.57 -516.73,-117.13 -502.95,-103.35 -461.61,-103.35 -447.83,-117.13 -447.83,-151.57 ; -378.94,-151.57 -378.94,-117.13 -365.16,-103.35 -323.82,-103.35 -310.04,-117.13 -310.04,-151.57 ; -241.14,-151.57 -241.14,-117.13 -227.36,-103.35 -186.02,-103.35 -172.24,-117.13 -172.24,-151.57 ; -103.35,-151.57 -103.35,-117.13 -89.57,-103.35 -48.23,-103.35 -34.45,-117.13 -34.45,-151.57 ; 34.45,-151.57 34.45,-117.13 48.23,-103.35 89.57,-103.35 103.35,-117.13 103.35,-151.57 ; 172.24,-151.57 172.24,-117.13 186.02,-103.35 227.36,-103.35 241.14,-117.13 241.14,-151.57 ; 310.04,-151.57 310.04,-117.13 323.82,-103.35 365.16,-103.35 378.94,-117.13 378.94,-151.57 ; 447.83,-151.57 447.83,-117.13 461.61,-103.35 502.95,-103.35 516.73,-117.13 516.73,-151.57 ; 585.63,-151.57 585.63,-117.13 599.41,-103.35 640.75,-103.35 654.53,-117.13 654.53,-151.57 ; 723.43,-151.57 723.43,-117.13 737.2,-103.35 778.54,-103.35 792.32,-117.13 792.32,-151.57 ; 861.22,-151.57 861.22,-117.13 875,-103.35 916.34,-103.35 930.12,-117.13 930.12,-151.57 ; 999.02,-151.57 999.02,-117.13 1012.8,-103.35 1054.13,-103.35 1067.91,-117.13 1067.91,-151.57 ; 1136.81,-151.57 1136.81,-117.13 1150.59,-103.35 1191.93,-103.35 1205.71,-117.13 1205.71,-151.57 ; 1274.61,-151.57 1274.61,-117.13 1288.39,-103.35 1329.72,-103.35 1343.5,-117.13 1343.5,-151.57 ; 1412.4,-151.57 1412.4,-117.13 1426.18,-103.35 1460.63,-103.35 ; -1463.58,-157.48 1463.58,-157.48 ; -1463.58,-157.48 -1580.71,-157.48 -1580.71,133.86 -1463.58,133.86 ; -1463.58,-157.48 -1463.58,133.86 ; -1463.58,133.86 1463.58,133.86 ; 1463.58,-157.48 1580.71,-157.48 1580.71,133.86 1463.58,133.86 ; 1463.58,-157.48 1463.58,133.86

## 180F-22 [mil]
pads (24):
  round 56 hole 56: 1(-1584.65,-9.84) 1(1584.65,-9.84)
  oval 84x168 hole 56: 1(-1446.85,0) 2(-1309.06,0) 3(-1171.26,0) 4(-1033.46,0) 5(-895.67,0) 6(-757.87,0) 7(-620.08,0) 8(-482.28,0) 9(-344.49,0) 10(-206.69,0) 11(-68.9,0) 12(68.9,0) 13(206.69,0) 14(344.49,0) 15(482.28,0) 16(620.08,0) 17(757.87,0) 18(895.67,0) 19(1033.46,0) 20(1171.26,0) 21(1309.06,0) 22(1446.85,0)
Top Overlay:
  lines w8: -1529.53,-103.35 -1495.08,-103.35 -1481.3,-117.13 -1481.3,-151.57 ; -1412.4,-151.57 -1412.4,-117.13 -1398.62,-103.35 -1357.28,-103.35 -1343.5,-117.13 -1343.5,-151.57 ; -1274.61,-151.57 -1274.61,-117.13 -1260.83,-103.35 -1219.49,-103.35 -1205.71,-117.13 -1205.71,-151.57 ; -1136.81,-151.57 -1136.81,-117.13 -1123.03,-103.35 -1081.69,-103.35 -1067.91,-117.13 -1067.91,-151.57 ; -999.02,-151.57 -999.02,-117.13 -985.24,-103.35 -943.9,-103.35 -930.12,-117.13 -930.12,-151.57 ; -861.22,-151.57 -861.22,-117.13 -847.44,-103.35 -806.1,-103.35 -792.32,-117.13 -792.32,-151.57 ; -723.43,-151.57 -723.43,-117.13 -709.65,-103.35 -668.31,-103.35 -654.53,-117.13 -654.53,-151.57 ; -585.63,-151.57 -585.63,-117.13 -571.85,-103.35 -530.51,-103.35 -516.73,-117.13 -516.73,-151.57 ; -447.83,-151.57 -447.83,-117.13 -434.06,-103.35 -392.72,-103.35 -378.94,-117.13 -378.94,-151.57 ; -310.04,-151.57 -310.04,-117.13 -296.26,-103.35 -254.92,-103.35 -241.14,-117.13 -241.14,-151.57 ; -172.24,-151.57 -172.24,-117.13 -158.46,-103.35 -117.13,-103.35 -103.35,-117.13 -103.35,-151.57 ; -34.45,-151.57 -34.45,-117.13 -20.67,-103.35 20.67,-103.35 34.45,-117.13 34.45,-151.57 ; 103.35,-151.57 103.35,-117.13 117.13,-103.35 158.46,-103.35 172.24,-117.13 172.24,-151.57 ; 241.14,-151.57 241.14,-117.13 254.92,-103.35 296.26,-103.35 310.04,-117.13 310.04,-151.57 ; 378.94,-151.57 378.94,-117.13 392.72,-103.35 434.06,-103.35 447.83,-117.13 447.83,-151.57 ; 516.73,-151.57 516.73,-117.13 530.51,-103.35 571.85,-103.35 585.63,-117.13 585.63,-151.57 ; 654.53,-151.57 654.53,-117.13 668.31,-103.35 709.65,-103.35 723.43,-117.13 723.43,-151.57 ; 792.32,-151.57 792.32,-117.13 806.1,-103.35 847.44,-103.35 861.22,-117.13 861.22,-151.57 ; 930.12,-151.57 930.12,-117.13 943.9,-103.35 985.24,-103.35 999.02,-117.13 999.02,-151.57 ; 1067.91,-151.57 1067.91,-117.13 1081.69,-103.35 1123.03,-103.35 1136.81,-117.13 1136.81,-151.57 ; 1205.71,-151.57 1205.71,-117.13 1219.49,-103.35 1260.83,-103.35 1274.61,-117.13 1274.61,-151.57 ; 1343.5,-151.57 1343.5,-117.13 1357.28,-103.35 1398.62,-103.35 1412.4,-117.13 1412.4,-151.57 ; 1481.3,-151.57 1481.3,-117.13 1495.08,-103.35 1529.53,-103.35 ; -1532.48,-157.48 1532.48,-157.48 ; -1532.48,-157.48 -1649.61,-157.48 -1649.61,133.86 -1532.48,133.86 ; -1532.48,-157.48 -1532.48,133.86 ; -1532.48,133.86 1532.48,133.86 ; 1532.48,-157.48 1649.61,-157.48 1649.61,133.86 1532.48,133.86 ; 1532.48,-157.48 1532.48,133.86

## 180F-23 [mil]
pads (25):
  round 56 hole 56: 1(-1653.54,-9.84) 1(1653.54,-9.84)
  oval 84x168 hole 56: 1(-1515.75,0) 2(-1377.95,0) 3(-1240.16,0) 4(-1102.36,0) 5(-964.57,0) 6(-826.77,0) 7(-688.98,0) 8(-551.18,0) 9(-413.39,0) 10(-275.59,0) 11(-137.8,0) 12(0,0) 13(137.8,0) 14(275.59,0) 15(413.39,0) 16(551.18,0) 17(688.98,0) 18(826.77,0) 19(964.57,0) 20(1102.36,0) 21(1240.16,0) 22(1377.95,0) 23(1515.75,0)
Top Overlay:
  lines w8: -1598.43,-103.35 -1563.98,-103.35 -1550.2,-117.13 -1550.2,-151.57 ; -1481.3,-151.57 -1481.3,-117.13 -1467.52,-103.35 -1426.18,-103.35 -1412.4,-117.13 -1412.4,-151.57 ; -1343.5,-151.57 -1343.5,-117.13 -1329.72,-103.35 -1288.39,-103.35 -1274.61,-117.13 -1274.61,-151.57 ; -1205.71,-151.57 -1205.71,-117.13 -1191.93,-103.35 -1150.59,-103.35 -1136.81,-117.13 -1136.81,-151.57 ; -1067.91,-151.57 -1067.91,-117.13 -1054.13,-103.35 -1012.8,-103.35 -999.02,-117.13 -999.02,-151.57 ; -930.12,-151.57 -930.12,-117.13 -916.34,-103.35 -875,-103.35 -861.22,-117.13 -861.22,-151.57 ; -792.32,-151.57 -792.32,-117.13 -778.54,-103.35 -737.2,-103.35 -723.43,-117.13 -723.43,-151.57 ; -654.53,-151.57 -654.53,-117.13 -640.75,-103.35 -599.41,-103.35 -585.63,-117.13 -585.63,-151.57 ; -516.73,-151.57 -516.73,-117.13 -502.95,-103.35 -461.61,-103.35 -447.83,-117.13 -447.83,-151.57 ; -378.94,-151.57 -378.94,-117.13 -365.16,-103.35 -323.82,-103.35 -310.04,-117.13 -310.04,-151.57 ; -241.14,-151.57 -241.14,-117.13 -227.36,-103.35 -186.02,-103.35 -172.24,-117.13 -172.24,-151.57 ; -103.35,-151.57 -103.35,-117.13 -89.57,-103.35 -48.23,-103.35 -34.45,-117.13 -34.45,-151.57 ; 34.45,-151.57 34.45,-117.13 48.23,-103.35 89.57,-103.35 103.35,-117.13 103.35,-151.57 ; 172.24,-151.57 172.24,-117.13 186.02,-103.35 227.36,-103.35 241.14,-117.13 241.14,-151.57 ; 310.04,-151.57 310.04,-117.13 323.82,-103.35 365.16,-103.35 378.94,-117.13 378.94,-151.57 ; 447.83,-151.57 447.83,-117.13 461.61,-103.35 502.95,-103.35 516.73,-117.13 516.73,-151.57 ; 585.63,-151.57 585.63,-117.13 599.41,-103.35 640.75,-103.35 654.53,-117.13 654.53,-151.57 ; 723.43,-151.57 723.43,-117.13 737.2,-103.35 778.54,-103.35 792.32,-117.13 792.32,-151.57 ; 861.22,-151.57 861.22,-117.13 875,-103.35 916.34,-103.35 930.12,-117.13 930.12,-151.57 ; 999.02,-151.57 999.02,-117.13 1012.8,-103.35 1054.13,-103.35 1067.91,-117.13 1067.91,-151.57 ; 1136.81,-151.57 1136.81,-117.13 1150.59,-103.35 1191.93,-103.35 1205.71,-117.13 1205.71,-151.57 ; 1274.61,-151.57 1274.61,-117.13 1288.39,-103.35 1329.72,-103.35 1343.5,-117.13 1343.5,-151.57 ; 1412.4,-151.57 1412.4,-117.13 1426.18,-103.35 1467.52,-103.35 1481.3,-117.13 1481.3,-151.57 ; 1550.2,-151.57 1550.2,-117.13 1563.98,-103.35 1598.43,-103.35 ; -1601.38,-157.48 1601.38,-157.48 ; -1601.38,-157.48 -1718.5,-157.48 -1718.5,133.86 -1601.38,133.86 ; -1601.38,-157.48 -1601.38,133.86 ; -1601.38,133.86 1601.38,133.86 ; 1601.38,-157.48 1718.5,-157.48 1718.5,133.86 1601.38,133.86 ; 1601.38,-157.48 1601.38,133.86